# EAGLE library part MCP46X1 (library Class D Amp)
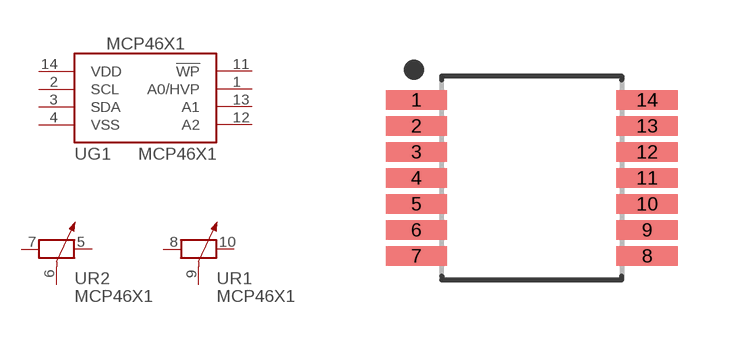
[diagram p1: symbol with the pads of SOP65P640X120-14; footprint SOP65P640X120-14]

Designator prefix U; gates G1=MCP46X1 R1=POTEURO R2=POTEURO

## MCP46X1  [SOP65P640X120-14]
1  G1:A0/HVP
2  G1:SCL
3  G1:SDA
4  G1:VSS
5  R2:B  pas
6  R2:W  pas
7  R2:A  pas
8  R1:A  pas
9  R1:W  pas
10  R1:B  pas
11  G1:!WP
12  G1:A2
13  G1:A1
14  G1:VDD

## Footprint SOP65P640X120-14 (pad centres in mm)
14-SOP, 0.65 mm pitch, 6.40 mm span, 5.00 X 4.40 X 1.20 mm body 14-pin SOP package with 0.65 mm pitch, 6.40 mm span with body size 5.00 X 4.40 X 1.20 mm
smd 1.533 x 0.488: 1 -2.887,1.95; 2 -2.887,1.3; 3 -2.887,0.65; 4 -2.887,0; 5 -2.887,-0.65; 6 -2.887,-1.3; 7 -2.887,-1.95; 8 2.887,-1.95; 9 2.887,-1.3; 10 2.887,-0.65; 11 2.887,0; 12 2.887,0.65; 13 2.887,1.3; 14 2.887,1.95